# Altium schematic symbol library ADF4351BCPZ.SchLib: 1 symbol
Pins are listed as number, name and electrical type; pins without a type are passive.

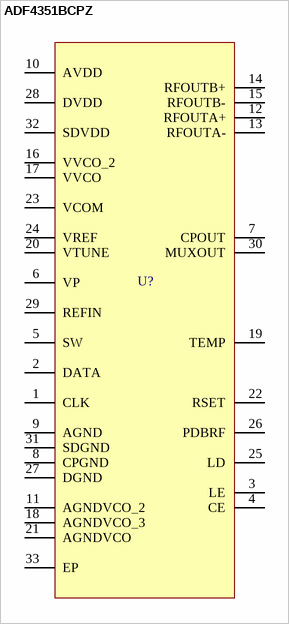
[diagram p0: symbol ADF4351BCPZ]

## ADF4351BCPZ
designator U?
MP: ADF4351BCPZ; MF: Analog Devices; SnapEDA_Link: https://www.snapeda.com/parts/ADF4351BCPZ/Analog%20Devices%20Inc./view-part/275283/?ref=snap; Digi-Key_Purchase_URL: https://www.digikey.it/product-detail/en/analog-devices-inc/ADF4351BCPZ/ADF4351BCPZ-ND/3340515?utm_source=snapeda&utm_medium=aggregator&utm_campaign=symbol; Digi-Key_Part_Number: ADF4351BCPZ-ND; Value: *; Package: LFCSP -32 Analog Devices
footprint QFN50P500X500X100-33N
pins: 1 CLK, 2 DATA, 3 LE, 4 CE, 5 SW, 6 VP, 7 CPOUT, 8 CPGND, 9 AGND, 10 AVDD, 11 AGNDVCO_2, 12 RFOUTA+, 13 RFOUTA-, 14 RFOUTB+, 15 RFOUTB-, 16 VVCO_2, 17 VVCO, 18 AGNDVCO_3, 19 TEMP, 20 VTUNE, 21 AGNDVCO, 22 RSET, 23 VCOM, 24 VREF, 25 LD, 26 PDBRF, 27 DGND, 28 DVDD, 29 REFIN, 30 MUXOUT, 31 SDGND, 32 SDVDD, 33 EP